# EAGLE library part SIM800L-5V-MODULE (library sim800l-GSM-module)
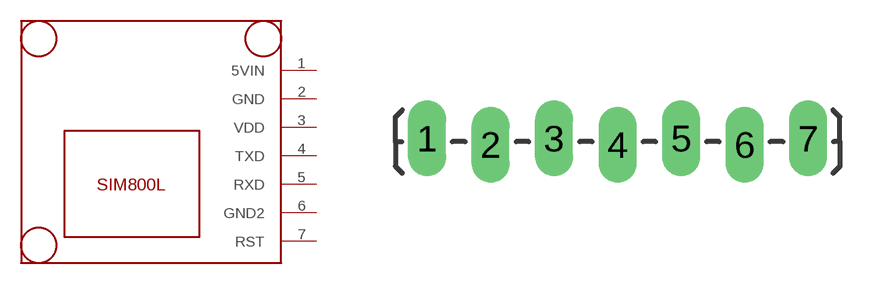
[diagram p0: symbol with the pads of 1X07_LOCK_LONGPADS; footprint 1X07_LOCK_LONGPADS]

Designator prefix -

## SIM800L-5V-MODULE7PIN-CONNECTOR  [1X07_LOCK_LONGPADS]
1  5VIN
2  GND
3  VDD
4  TXD
5  RXD
6  GND2
7  RST

## Footprint 1X07_LOCK_LONGPADS (pad centres in mm)
Plated Through Hole -7 Pin Locking Footprint w/ Long Pads Holes are offset 0.005" from center, locking pins in place during soldering. Specifications: Pin count:7 Pin pitch:0.1" Example device(s): CONN_07
drill 1.016 long: 1 0,0.127; 2 2.54,-0.127; 3 5.08,0.127; 4 7.62,-0.127; 5 10.16,0.127; 6 12.7,-0.127; 7 15.24,0.127